# Altium footprint library LPON_OTHER.PcbLib: 107 footprints (part 5 of 7)
Each footprint in its own frame and in the unit in brackets; x right, y up, seen from the top. Pads: shape width x height; smd on the part's side, far side on the other; paste and mask are expansions set on the pad; w line width, h text height; cw(c..) or ccw(c..) is an arc to the next point about the centre after c.
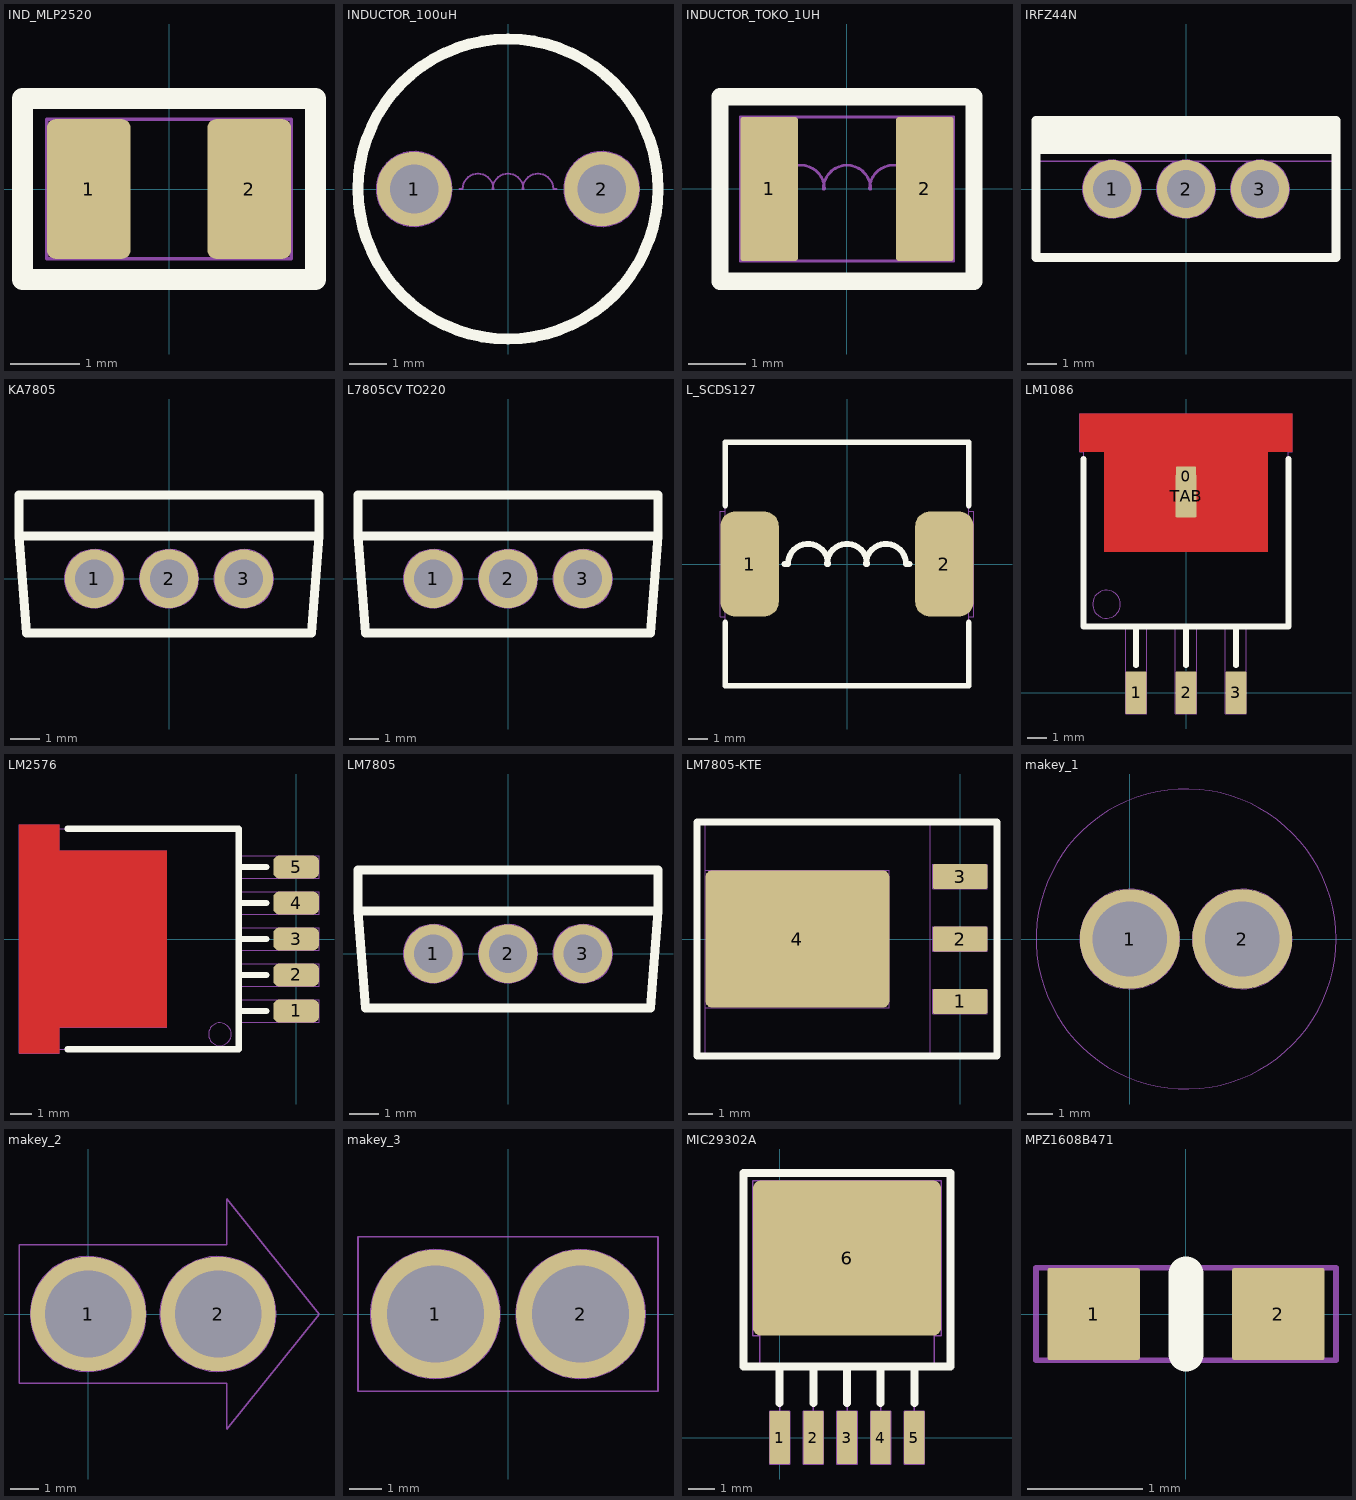
[diagram p4: the footprints below, top view; thin cyan lines are the x and y axes]

## IND_MLP2520 [mm] "Inductor for Power Circuits MLP2520 (1008inch)"
height 1
pads (2):
  rrect20% 1.2x2 smd mask+0.1: 1(-1.15,0) 2(1.15,0)
Top Overlay:
  lines w0.3: -2.1,-1.3 2.1,-1.3 2.1,1.3 -2.1,1.3 -2.1,-1.3
Mechanical 1:
  lines w0.05: -0.55,-1 -1.75,-1 -1.75,1 -0.55,1 ; 0.55,-1 1.75,-1 1.75,1 0.55,1 ; -1.25,-1 -1.25,1 1.25,1 1.25,-1 -1.25,-1
  text "L?" at 0,0 h0.5
3D body "User Library-Chip Inductor.step": height 2, standoff 0, extent -1.25,-1.1 1.25,1.1

## INDUCTOR_100uH [mm] "through pin to pin 5mm 8x10mm"
height 10
pads (2):
  round 2 hole 1.3 mask+0.1: 1(-2.5,0) 2(2.5,0)
Top Overlay:
  circle w0.3: c0,0 r4
Mechanical 1:
  circle w0.05: c2.5,0 r1
  circle w0.05: c-2.5,0 r1
  circle w0.05: c0,0 r4
  lines w0.05: -1.3,0.001 -1.211,0.001 cw(c-0.8,0) -0.389,0.001 ; -0.411,0.001 cw(c0,0) 0.411,0.001 ; 0.389,0.001 cw(c0.8,0) 1.211,0.001 ; 1.211,0 1.3,0
  text "L?" at 0,0 h0.3
3D body "69623.stp": height 5.8, standoff 0, extent -4.9,-4.9 4.9,4.9

## INDUCTOR_TOKO_1UH [mm] "DFE322512C, 3.2x2.5x1mm"
height 1.2
pads (2):
  rrect10% 1x2.5 smd mask+0.1: 1(-1.35,0) 2(1.35,0)
Top Overlay:
  lines w0.3: -2.2,-1.6 -2.2,1.6 2.2,1.6 2.2,-1.6 -2.2,-1.6
Mechanical 1:
  lines w0.05: -1.5,0.001 -1.211,0.001 cw(c-0.8,0) -0.389,0.001 ; -0.85,-1.25 -1.85,-1.25 -1.85,1.25 -0.85,1.25 ; -0.411,0.001 cw(c0,0) 0.411,0.001 ; 0.389,0.001 cw(c0.8,0) 1.211,0.001 ; 0.85,-1.25 1.85,-1.25 1.85,1.25 0.85,1.25 ; 1.211,0 1.5,0 ; -1.6,-1.25 -1.6,1.25 1.6,1.25 1.6,-1.25 -1.6,-1.25
  text "L?" at 0,0 h0.3

## IRFZ44N [mm] "MOSFETN TO220AB"
height 15.8
pads (3):
  round 2 hole 1.3 mask+0.1: 1(-2.54,0) 2(0,0) 3(2.54,0)
Top Overlay:
  lines w0.3: -5.15,1.65 5.15,1.65 ; -5.15,1.95 5.15,1.95 ; -5.15,2.25 5.15,2.25 ; -5.15,-2.35 -5.15,2.35 5.15,2.35 5.15,-2.35 -5.15,-2.35 ; -5.15,1.35 5.15,1.35 -5.15,1.35
Mechanical 1:
  circle w0.05: c2.54,0 r1
  circle w0.05: c0,0 r1
  circle w0.05: c-2.54,0 r1
  lines w0.05: -5.15,0.95 5.15,0.95 ; -5.15,2.35 5.15,2.35 ; -5.15,2.35 -5.15,-2.35 5.15,-2.35 5.15,2.35 ; -5.15,2.35 5.15,2.35
  text "S" at 2.2,-0.52 h1
  text "D" at -0.3,-0.5 h1
  text "G" at -2.9,-0.52 h1
3D body "User Library-TO-220-1.STEP": height 18.8, standoff -9.98, extent -4.947,-2.087 4.953,2.413

## KA7805 [mm] "POWER IC 7805"
height 19
pads (3):
  round 2 hole 1.3: 1(-2.54,0) 2(0,0) 3(2.54,0)
Top Overlay:
  lines w0.3: -5.1,1.451 -4.85,-1.85 4.85,-1.85 5.1,1.451 ; -5.1,1.45 5.1,1.45 5.1,2.85 -5.1,2.85 -5.1,1.45
Mechanical 1:
  circle w0.05: c2.54,0 r1
  circle w0.05: c0,0 r1
  circle w0.05: c-2.54,0 r1
  lines w0.05: -5.1,1.451 -4.85,-1.85 4.85,-1.85 5.1,1.451 ; -5.1,1.45 -5.1,2.85 5.1,2.85 5.1,1.45 -5.1,1.45
  text "O" at 2.159,1.524 h1.2
  text "G" at -0.381,1.524 h1.2
  text "I" at -2.667,1.524 h1.2
3D body "SW3dPS-TO220AB.STEP": height 19.17, standoff -10.16, extent -5.562,-1.626 5.651,3.064

## L7805CV TO220 [mm] "L7805CV TO220 1.5A 5V"
height 15.49
pads (3):
  round 2 hole 1.3: 1(-2.54,0) 2(0,0) 3(2.54,0)
Top Overlay:
  lines w0.3: -5.1,1.451 -4.85,-1.85 4.85,-1.85 5.1,1.451 ; -5.1,1.45 5.1,1.45 5.1,2.85 -5.1,2.85 -5.1,1.45
Mechanical 2:
  circle w0.05: c0,0 r1
  circle w0.05: c2.54,0 r1
  circle w0.05: c-2.54,0 r1
  lines w0.05: -5.1,1.451 -4.85,-1.85 4.85,-1.85 5.1,1.451 ; -5.1,1.45 5.1,1.45 5.1,2.85 -5.1,2.85 -5.1,1.45
  text "3" at 2.2,-0.5 h1
  text "2" at -0.3,-0.4 h1
  text "1" at -2.667,-0.4 h1
  text "G" at -0.381,1.524 h1.2
  text "O" at 2.159,1.524 h1.2
  text "I" at -2.667,1.524 h1.2
3D body "SW3dPS-TO220AB.STEP": height 19.17, standoff -10.16, extent -5.562,-1.626 5.651,3.064

## L_SCDS127 [mm] "SMD inductors 12.5*12.5*8 220uH 3A"
height 8
pads (2):
  rrect50% 3x5.4 smd mask+0.1: 1(-5,0) 2(5,0)
Top Overlay:
  lines w0.3: -6.25,-3 -6.25,-6.25 6.25,-6.25 6.25,-3 ; -6.25,3 -6.25,6.25 6.25,6.25 6.25,3 ; -3.2,0 -3.03,0 cw(c-2,0) -0.97,0 ; -1.03,0 cw(c0,0) 1.03,0 ; 0.97,0 cw(c2,0) 3.03,0 3.2,0
Mechanical 1:
  lines w0.05: -6.25,-2.7 -6.5,-2.7 -6.5,2.7 -6.25,2.7 ; -3.2,0 -3.03,0 cw(c-2,0) -0.97,0 ; -1.03,0 cw(c0,0) 1.03,0 ; 0.97,0 cw(c2,0) 3.03,0 3.2,0 ; 6.25,-2.7 6.5,-2.7 6.5,2.7 6.25,2.7 ; -6.25,-6.25 -6.25,6.25 6.25,6.25 6.25,-6.25 -6.25,-6.25
  text "1" at -5.2,-0.3 h1.2
  text "2" at 4.6,-0.4 h1.2

## LM1086 [mm] "TO-263 1.5A Low Dropout Positive Regulators"
height 4.64
pads (5):
  rrect10% 1x1 smd mask+0.1: 0(0,11)
  rrect10% 1.07x2.16 smd mask+0.1: 1(-2.54,0) 2(0,0) 3(2.54,0)
  rrect10% 1.07x2.16 smd mask+0: TAB(0,10)
Top Layer:
  region: -5.4,14.17 5.4,14.17 5.4,12.26 4.165,12.26 4.165,7.18 -4.165,7.18 -4.165,12.26 -5.4,12.26
Top Overlay:
  lines w0.3: -5.205,11.875 -5.205,3.37 5.205,3.37 5.205,11.875 ; -2.54,1.4 -2.54,3.37 ; 0,1.4 0,3.37 ; 2.54,1.4 2.54,3.37
Top Paste:
  region: -5.4,14.17 5.4,14.17 5.4,12.26 4.165,12.26 4.165,7.18 -4.165,7.18 -4.165,12.26 -5.4,12.26
Mechanical 1:
  circle w0.05: c-4.04,4.5 r0.707
  lines w0.05: -5.19,12.26 -5.4,12.26 -5.4,14.17 5.4,14.17 5.4,12.26 5.205,12.26 ; -5.205,3.37 -5.205,13.53 5.205,13.53 5.205,3.37 -5.205,3.37 ; -3.075,-1.08 -2.005,-1.08 -2.005,3.37 -3.075,3.37 -3.075,-1.08 ; -0.535,-1.08 0.535,-1.08 0.535,3.37 -0.535,3.37 -0.535,-1.08 ; 2.005,-1.08 3.075,-1.08 3.075,3.37 2.005,3.37 2.005,-1.08
  text "IC?" at -1.4,7.6 h1
  text "OUT" at -1.5,9.7 h1
  text "IN" at 3,3.8 h1
  text "OUT" at 0.5,3.8 h1
  text "GND" at -2.1,3.8 h1
3D body "SW3dPS-TO263-3S.STEP": height 4.78, standoff -0.02, extent -5,-1.152 5,14.518

## LM2576 [mm] "Series SIMPLE SWITCHER 3A Step-Down Voltage Regulator"
height 4.65
pads (5):
  rrect50% 2.16x1.07 smd mask+0.1: 1(0,-3.4) 2(0,-1.7) 3(0,0) 4(0,1.7) 5(0,3.4)
Top Layer:
  region: -13.09,-5.4 -13.09,5.4 -11.18,5.4 -11.18,4.165 -6.1,4.165 -6.1,-4.165 -11.18,-4.165 -11.18,-5.4
Top Overlay:
  lines w0.3: -10.8,-5.205 -2.718,-5.205 -2.718,5.205 -10.8,5.205 ; -2.717,-3.4 -1.4,-3.4 ; -2.717,-1.7 -1.4,-1.7 ; -2.717,0 -1.4,0 ; -2.717,1.7 -1.4,1.7 ; -2.717,3.4 -1.4,3.4
Top Paste:
  region: -13.09,-5.4 -13.09,5.4 -11.18,5.4 -11.18,4.165 -6.1,4.165 -6.1,-4.165 -11.18,-4.165 -11.18,-5.4
Mechanical 1:
  circle w0.05: c-3.6,-4.5 r0.539
  lines w0.05: -11.608,-5.205 -11.608,5.205 ; -2.718,-3.935 1.08,-3.935 1.08,-2.865 -2.718,-2.865 ; -2.718,-2.235 1.08,-2.235 1.08,-1.165 -2.718,-1.165 ; -2.718,-0.535 1.08,-0.535 1.08,0.535 -2.718,0.535 ; -2.718,1.165 1.08,1.165 1.08,2.235 -2.718,2.235 ; -2.718,2.865 1.08,2.865 1.08,3.935 -2.718,3.935 ; -13.09,-5.4 -11.18,-5.4 -11.18,-4.165 -6.1,-4.165 -6.1,4.165 -11.18,4.165 -11.18,5.4 -13.09,5.4 -13.09,-5.4 ; -12.878,-4.92 -12.878,4.92 -12.592,5.205 -2.718,5.205 -2.718,-5.205 -12.592,-5.205 -12.878,-4.92
  text "5" at 0.6,3.1 h1
  text "1" at 0.6,-3.5 h1
  text "VIN" at -4.118,-3.7 h0.5
  text "VOUT" at -4.701,-2 h0.5
  text "GND" at -4.201,-0.3 h0.5
  text "FEEDBACK" at -6.7,1.4 h0.5
  text "ON/OFF" at -5.7,3.1 h0.5
  text "GND" at -9.9,-0.4 h0.5
3D body "User Library-5L TO-263 THIN.step": height 2, standoff -0.01, extent -12.923,-5.08 1.087,5.08

## LM7805 [mm] "POWER IC 7805"
height 15.49
pads (3):
  round 2 hole 1.3: 1(-2.54,0) 2(0,0) 3(2.54,0)
Top Overlay:
  lines w0.3: -5.1,1.451 -4.85,-1.85 4.85,-1.85 5.1,1.451 ; -5.1,1.45 5.1,1.45 5.1,2.85 -5.1,2.85 -5.1,1.45
Mechanical 2:
  circle w0.05: c0,0 r1
  circle w0.05: c2.54,0 r1
  circle w0.05: c-2.54,0 r1
  lines w0.05: -5.1,1.451 -4.85,-1.85 4.85,-1.85 5.1,1.451 ; -5.1,1.45 5.1,1.45 5.1,2.85 -5.1,2.85 -5.1,1.45
  text "3" at 2.2,-0.5 h1
  text "2" at -0.3,-0.4 h1
  text "1" at -2.667,-0.4 h1
  text "G" at -0.381,1.524 h1.2
  text "O" at 2.159,1.524 h1.2
  text "I" at -2.667,1.524 h1.2
3D body "SW3dPS-TO220AB.STEP": height 19.17, standoff -10.16, extent -5.562,-1.626 5.651,3.064

## LM7805-KTE [mm] "KTE 1.5A POSITIVE-VOLTAGE REGULATORS"
height 2.03
pads (4):
  rrect10% 2.215x1 smd mask+0.1: 1(0,-2.54) 2(0,0) 3(0,2.54)
  rrect10% 7.49x5.59 smd mask+0.1: 4(-6.618,0)
Top Overlay:
  lines w0.3: -10.7,-4.76 1.5,-4.76 1.5,4.76 -10.7,4.76 -10.7,-4.76
Mechanical 1:
  lines w0.05: -10.363,-4.76 -1.222,-4.76 -1.222,4.76 -10.363,4.76 -10.363,-4.76 ; -10.362,-2.795 -10.362,2.795 -2.873,2.795 -2.873,-2.795 -10.362,-2.795 ; -1.108,-3.04 -1.108,-2.04 1.108,-2.04 1.108,-3.04 -1.108,-3.04 ; -1.108,-0.5 1.108,-0.5 1.108,0.5 -1.108,0.5 -1.108,-0.5 ; -1.108,2.04 -1.108,3.04 1.108,3.04 1.108,2.04 -1.108,2.04
  text "OUT" at -1.5,1.9 h1
  text "GND" at -1.5,-1.4 h1
  text "IN" at -1.5,-3.6 h1
  text "3" at 0.5,2.2 h1
  text "1" at 0.5,-2.7 h1

## makey_1 [mm] "phi12-phi3"
pads (2):
  round 4 hole 3 mask+0.1: 1(0,0) 2(4.5,0)
Top Solder:
  region: -3.75,0 -3.75,-0.295 -3.692,-0.881 -3.577,-1.46 -3.406,-2.024 -3.18,-2.568 -2.903,-3.088 -2.575,-3.579 -2.201,-4.034 -1.784,-4.451 -1.329,-4.825 -0.838,-5.153 -0.318,-5.43 0.226,-5.656 0.79,-5.827 1.369,-5.942 1.955,-6 2.25,-6 2.545,-6 3.131,-5.942 3.71,-5.827 4.274,-5.656 4.818,-5.43 5.338,-5.153 5.829,-4.825 6.284,-4.451 6.701,-4.034 7.075,-3.579 7.403,-3.088 7.68,-2.568 7.906,-2.024 8.077,-1.46 8.192,-0.881 8.25,-0.295 8.25,0 8.25,0.295 8.192,0.881 8.077,1.46 7.906,2.024 7.68,2.568 7.403,3.088 7.075,3.579 6.701,4.034 6.284,4.451 5.829,4.825 5.338,5.153 4.818,5.43 4.274,5.656 3.71,5.827 3.131,5.942 2.545,6 2.25,6 1.955,6 1.369,5.942 0.79,5.827 0.226,5.656 -0.318,5.43 -0.838,5.153 -1.329,4.825 -1.784,4.451 -2.201,4.034 -2.575,3.579 -2.903,3.088 -3.18,2.568 -3.406,2.024 -3.577,1.46 -3.692,0.881 -3.75,0.295
Mechanical 1:
  circle w0.05: c0,0 r2
  circle w0.05: c4.5,0 r2
  circle w0.05: c2.25,0 r6

## makey_2 [mm] "size 5x12 phi3"
pads (2):
  round 4 hole 3 mask+0.1: 1(0,0) 2(4.5,0)
Top Solder:
  region: -2.4,-2.4 -2.4,2.4 4.8,2.4 4.8,4 8,0 4.8,-4 4.8,-2.4
Mechanical 1:
  circle w0.05: c4.5,0 r2
  circle w0.05: c0,0 r2
  lines w0.05: -2.4,-2.4 -2.4,2.4 4.8,2.4 4.8,4 8,0 4.8,-4 4.8,-2.4 -2.4,-2.4

## makey_3 [mm] "size 5x12 phi3"
pads (2):
  round 4 hole 3 mask+0.1: 1(-2.25,0) 2(2.25,0)
Top Solder:
  region: -4.65,-2.4 -4.65,2.4 4.65,2.4 4.65,-2.4
Mechanical 1:
  circle w0.05: c2.25,0 r2
  circle w0.05: c-2.25,0 r2
  lines w0.05: -4.65,-2.4 -4.65,2.4 ; -4.65,-2.4 4.65,-2.4 ; -4.65,-2.4 4.65,-2.4 ; -4.65,-2.4 -4.65,2.4 ; -4.65,2.4 4.65,2.4 ; -4.65,2.4 4.65,2.4 ; 4.65,-2.4 4.65,2.4 ; 4.65,-2.4 4.65,2.4

## MIC29302A [mm] "MIC29302AWD TO-252-D"
height 2.387
pads (6):
  rrect10% 0.76x2 smd mask+0.1: 1(0,0) 2(1.27,0) 3(2.54,0) 4(3.81,0) 5(5.08,0)
  rrect10% 7.1x5.85 smd mask+0.1: 6(2.54,6.775)
Top Overlay:
  lines w0.3: 0,1.3 0,2.6 ; 1.27,1.3 1.27,2.6 ; 2.54,1.3 2.54,2.6 ; 3.81,1.3 3.81,2.6 ; 5.08,1.3 5.08,2.6 ; -1.36,2.687 -1.36,9.987 6.44,9.987 6.44,2.687 -1.36,2.687
Mechanical 1:
  lines w0.05: -0.762,3.85 -1.01,3.85 -1.01,9.7 6.09,9.7 6.09,3.85 5.842,3.85 ; 0,1 0,2.688 ; 1.27,1 1.27,2.688 ; 2.54,1 2.54,2.688 ; 3.81,1 3.81,2.688 ; 5.08,1 5.08,2.688 ; -0.762,2.688 -0.762,8.887 5.842,8.887 5.842,2.688 -0.762,2.688 ; -0.38,-1 -0.38,1 0.38,1 0.38,-1 -0.38,-1 ; 0.89,-1 1.65,-1 1.65,1 0.89,1 0.89,-1 ; 2.16,-1 2.92,-1 2.92,1 2.16,1 2.16,-1 ; 3.43,-1 4.19,-1 4.19,1 3.43,1 3.43,-1 ; 4.7,-1 5.46,-1 5.46,1 4.7,1 4.7,-1
  text "ADJ" at 5.2,-0.5 h0.4
  text "OUT" at 4,-0.5 h0.4
  text "GND" at 2.7,-0.5 h0.4
  text "IN" at 1.5,-0.4 h0.4
  text "TAB" at 1.9,6.2 h0.6
  text "EN" at 0.2,-0.4 h0.4
  text "IC?" at 1.44,4.56 h1

## MPZ1608B471 [mm] "FERRITE BEAD 470 OHM 0603 1LN"
height 0.8
pads (2):
  rrect5% 0.8x0.8 smd mask+0.1: 1(-0.8,0) 2(0.8,0)
Top Overlay:
  lines w0.3: 0,-0.35 0,0.35
Mechanical 2:
  lines w0.05: -0.3,-0.4 -1.3,-0.4 -1.3,0.4 -0.3,0.4 ; 0.3,-0.4 1.3,-0.4 1.3,0.4 0.3,0.4 ; -0.8,-0.4 0.8,-0.4 0.8,0.4 -0.8,0.4 -0.8,-0.4
3D body "Cap 0603.STEP": height 0.6, standoff 0, extent -0.8,-0.4 0.8,0.4